# Altium integrated library CUBIC_FC.IntLib: 64 symbols (part 1 of 3)
Pins are listed as number, name and electrical type; pins without a type are passive.

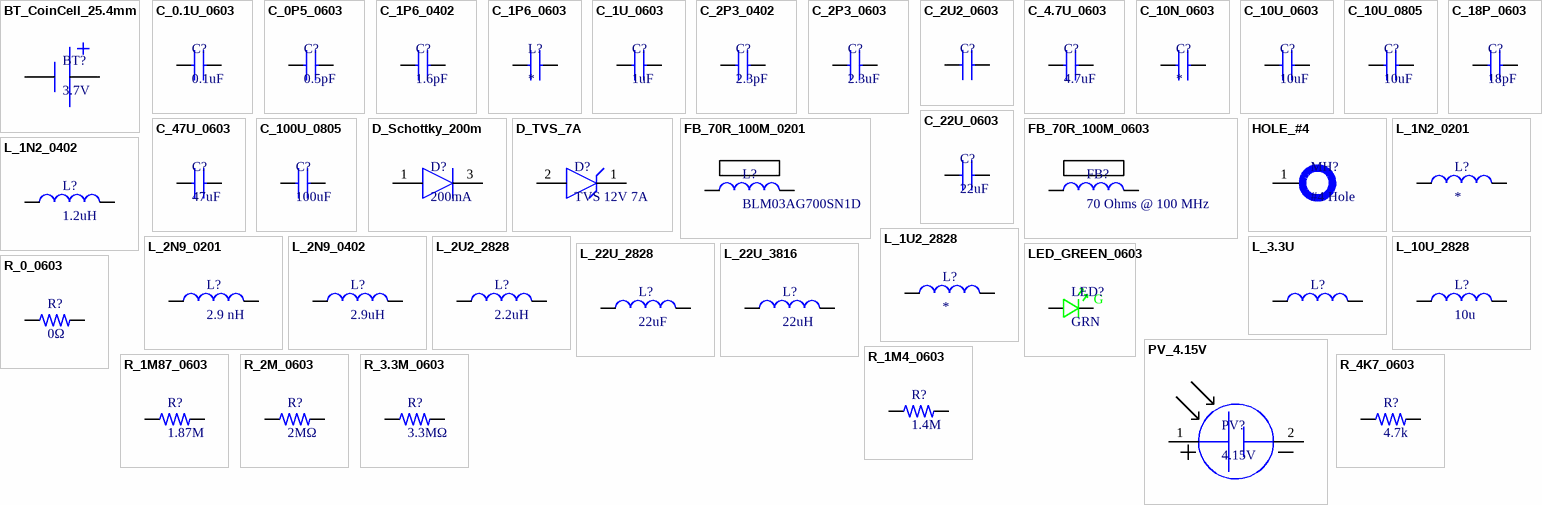
[diagram p0: symbols BT_CoinCell_25.4mm to R_4K7_0603]

## BT_CoinCell_25.4mm
designator BT?, comment 3.7V
BATTERY HOLDER COIN 24.5MM SMD; Manufacturer: Memory Protection Devices; Manufacturer Part Number: BU2450SM-JJ-GTR; Supplier: Digikey; Supplier Part Number: BU2450SM-JJ-GCT-ND; RoHS: Yes; Category: Uncategorized; Stock: 49410; Pricing: 1=1.72, 10=1.445, 50=1.2702, 100=1.1967 (USD); ComponentLink1URL: https://datasheet.ciiva.com/4/bu2450sm-jj-gtr-datasheet-4338.pdf?src-supplier=Digikey; ComponentLink1Description: https://datasheet.ciiva.com/4/bu2450sm-jj-gtr-datasheet-4338.pdf?src-supplier=Digikey; ComponentLink2URL: https://datasheet.ciiva.com/4/bu2450sm-jj-gtr-datasheet-4339.pdf?src-supplier=Digikey; ComponentLink2Description: https://datasheet.ciiva.com/4/bu2450sm-jj-gtr-datasheet-4339.pdf?src-supplier=Digikey; ComponentLink3URL: https://datasheet.ciiva.com/4/bu2450sm-jj-gtr-datasheet-4340.pdf?src-supplier=Digikey; ComponentLink3Description: https://datasheet.ciiva.com/4/bu2450sm-jj-gtr-datasheet-4340.pdf?src-supplier=Digikey
footprint BT_25.4mmCoinCell
pins: 1 7, 2 6

## C_0.1U_0603
designator C?, comment 0.1uF
CAP CER 0.1UF 10V X5R 0603; Manufacturer: KEMET; Manufacturer Part Number: C0603C104K8PAC7867; Dielectric Material: Ceramic; Supplier: Digikey; Supplier Part Number: 399-17573-1-ND; RoHS: Yes; Category: Ceramic Capacitors; Stock: 13122; Pricing: 1=0.18, 10=0.119, 50=0.075, 100=0.06, 500=0.04332, 1000=0.03833 (USD); Pins: 2; Capacitor Type: Ceramic; Reach SVHC Compliant: Yes; RoHS Compliant: Yes; ComponentLink1URL: https://datasheet.ciiva.com:443/pdfs/VipMasterIC/IC/KEME/KEME-S-A0007617622/KEME-S-A0007611556-1.pdf?src-supplier=IHS+Markit; ComponentLink1Description: https://datasheet.ciiva.com:443/pdfs/VipMasterIC/IC/KEME/KEME-S-A0007617622/KEME-S-A0007611556-1.pdf?src-supplier=IHS+Markit; ComponentLink2URL: https://api.kemet.com/component-edge/download/datasheet/C0603C104K8PAC7867.pdf?src-supplier=Digikey; ComponentLink2Description: https://api.kemet.com/component-edge/download/datasheet/C0603C104K8PAC7867.pdf?src-supplier=Digikey
footprint C_0603 (Chip Capacitor, 2-Leads, Body 1.60x0.80mm, IPC Medium Density)
pins: 1, 2

## C_0P5_0603
designator C?, comment 0.5pF
Cap Cer 0.5PF 250V C0G/NP0 0603; Manufacturer: Johanson; Manufacturer Part Number: QSCP251Q0R5A1GV001T; Supplier: Digikey; Supplier Part Number: 712-QSCP251Q0R5A1GV001TCT-ND; RoHS: No; Category: Ceramic Capacitors; Stock: 12633; Pricing: 1=0.36, 10=0.237, 50=0.1746, 100=0.1422, 500=0.11226, 1000=0.0948 (USD)
footprint C_0603 (Chip Capacitor, 2-Leads, Body 1.60x0.80mm, IPC Medium Density)
pins: 1, 2

## C_1P6_0402
designator C?, comment 1.6pF
Ceramic Capacitor, Multilayer, Ceramic, 50V, 15.62% +Tol, 15.62% -Tol, C0G, 30ppm/Cel TC, 0.0000016uF, Surface Mount, 0402; Manufacturer: Murata; Manufacturer Part Number: GJM1555C1H1R6CB01D; Multilayer: Yes; Supplier: Digikey; Supplier Part Number: 490-3088-1-ND; RoHS: Yes; Category: Ceramic Capacitors; Stock: 26859; Pricing: 1=0.1, 10=0.047, 50=0.0272, 100=0.0211, 500=0.01586, 1000=0.01246, 2500=0.01133, 5000=0.01042 (USD); Mounting Technology: Surface Mount; Pins: 2; Dielectric Material: Ceramic; Package Shape: Rectangular; Case/Package: 0402; Terminal Finish: Nickel; Min Operating Temperature: -55°C; Max Operating Temperature: 125°C; JESD-609 Code: e3; Value: 1.6pF; Capacitor Type: Ceramic; Tolerance  (fill in as +-): 15.62%; Package Style: SMTMeter; Packaging: Tape and Reel; Tolerance (fill in as +-): 15.62%; Rated DC Voltage (URdc): 50V; Temperature Characteristics Code: C0G; Termination: Wraparound; Length: 1mm; Width: 0.5mm; Height: 0.5mm; Reach SVHC Compliant: Yes; RoHS Compliant: Yes; ComponentLink1URL: https://datasheet.ciiva.com:443/pdfs/VipMasterIC/IC/MURE/MURE-S-A0004378008/MURE-S-A0004382877-1.pdf?src-supplier=IHS+Markit; ComponentLink1Description: https://datasheet.ciiva.com:443/pdfs/VipMasterIC/IC/MURE/MURE-S-A0004378008/MURE-S-A0004382877-1.pdf?src-supplier=IHS+Markit; ComponentLink2URL: https://datasheet.ciiva.com/161/product-161712.pdf?src-supplier=Digikey; ComponentLink2Description: https://datasheet.ciiva.com/161/product-161712.pdf?src-supplier=Digikey; ComponentLink3URL: https://datasheet.ciiva.com/16440/gjm1555c1h1r6cb01d-16440474.pdf?src-supplier=Future+Electronics; ComponentLink3Description: https://datasheet.ciiva.com/16440/gjm1555c1h1r6cb01d-16440474.pdf?src-supplier=Future+Electronics; ComponentLink4URL: https://datasheet.ciiva.com/161/partnumbering-e-01-161713.pdf?src-supplier=Digikey; ComponentLink4Description: https://datasheet.ciiva.com/161/partnumbering-e-01-161713.pdf?src-supplier=Digikey; ComponentLink5URL: https://datasheet.ciiva.com/161/partnumbering-e-01-161714.pdf?src-supplier=Digikey; ComponentLink5Description: https://datasheet.ciiva.com/161/partnumbering-e-01-161714.pdf?src-supplier=Digikey
footprint C_0402
pins: 1, 2

## C_1P6_0603
designator L?
Cap Ceramic 1.6pF 50V C0G 0.1pF Pad SMD 0603 125C Automotive T/R; Manufacturer: KEMET; Manufacturer Part Number: CBR06C169B5GACAUTO; Supplier: Digikey; Supplier Part Number: 399-CBR06C169B5GACAUTOCT-ND; RoHS: No; Category: Ceramic Capacitors; Stock: 6392; Pricing: 1=0.24, 10=0.157, 50=0.1102, 100=0.0891, 500=0.06618, 1000=0.0579 (USD)
footprint C_0603 (Chip Capacitor, 2-Leads, Body 1.60x0.80mm, IPC Medium Density)
pins: 1, 2

## C_1U_0603
designator C?, comment 1uF
CAP CER 1UF 10V X5R 0603; Manufacturer: Murata; Manufacturer Part Number: GRM188R61A105KA61D; Dielectric Material: Ceramic; Multilayer: Yes; Tolerance  (fill in as +-): 10%; Supplier: Digikey; Supplier Part Number: 490-1543-1-ND; RoHS: Yes; Category: Ceramic Capacitors; Stock: 1314759; Pricing: 1=0.12, 10=0.08, 50=0.048, 100=0.0378, 500=0.02794, 1000=0.02313 (USD); Mounting Technology: Surface Mount; Pins: 2; Package Shape: Rectangular; Case/Package: 0603; Terminal Finish: Nickel; Min Operating Temperature: -55°C; Max Operating Temperature: 85°C; JESD-609 Code: e3; Value: 1uF; Capacitor Type: Ceramic; Package Style: SMTMeter; Packaging: Tape and Reel; Tolerance (fill in as +-): 10%; Rated DC Voltage (URdc): 10V; Temperature Characteristics Code: X5R; Termination: Wraparound; Length: 1.6mm; Width: 0.8mm; Height: 0.8mm; Reach SVHC Compliant: Yes; RoHS Compliant: Yes; ComponentLink1URL: https://psearch.en.murata.com:443/capacitor/product/GRM188R61A105KA61%23.pdf?src-supplier=IHS+Markit; ComponentLink1Description: https://psearch.en.murata.com:443/capacitor/product/GRM188R61A105KA61%23.pdf?src-supplier=IHS+Markit; ComponentLink2URL: https://datasheet.ciiva.com/19476/1857381-19476568.pdf?src-supplier=Jameco; ComponentLink2Description: https://datasheet.ciiva.com/19476/1857381-19476568.pdf?src-supplier=Jameco; ComponentLink3URL: https://datasheet.ciiva.com/18102/getdatasheetpartid-85467-18102910.pdf?src-supplier=Verical; ComponentLink3Description: https://datasheet.ciiva.com/18102/getdatasheetpartid-85467-18102910.pdf?src-supplier=Verical; ComponentLink4URL: https://datasheet.ciiva.com/7719/608985-7719036.pdf?src-supplier=Element14; ComponentLink4Description: https://datasheet.ciiva.com/7719/608985-7719036.pdf?src-supplier=Element14; ComponentLink5URL: https://datasheet.ciiva.com/22706/608985-22706782.pdf?src-supplier=Element14; ComponentLink5Description: https://datasheet.ciiva.com/22706/608985-22706782.pdf?src-supplier=Element14; ComponentLink6URL: https://datasheet.ciiva.com/131/partnumbering-e-01-131742.pdf?src-supplier=Digikey; ComponentLink6Description: https://datasheet.ciiva.com/131/partnumbering-e-01-131742.pdf?src-supplier=Digikey; ComponentLink7URL: https://datasheet.ciiva.com/131/partnumbering-e-01-131741.pdf?src-supplier=Digikey; ComponentLink7Description: https://datasheet.ciiva.com/131/partnumbering-e-01-131741.pdf?src-supplier=Digikey; ComponentLink8URL: https://datasheet.ciiva.com/131/partnumbering-e-01-131743.pdf?src-supplier=Digikey; ComponentLink8Description: https://datasheet.ciiva.com/131/partnumbering-e-01-131743.pdf?src-supplier=Digikey; ComponentLink9URL: https://datasheet.ciiva.com/16199/product-16199724.pdf?src-supplier=Future+Electronics; ComponentLink9Description: https://datasheet.ciiva.com/16199/product-16199724.pdf?src-supplier=Future+Electronics
footprint C_0603 (Chip Capacitor, 2-Leads, Body 1.60x0.80mm, IPC Medium Density)
pins: 1, 2

## C_2P3_0402
designator C?, comment 2.3pF
Ceramic Capacitor, Multilayer, Ceramic, 50V, 4.35% +Tol, 4.35% -Tol, C0G, 30ppm/Cel TC, 0.0000023uF, Surface Mount, 0402; Manufacturer: Murata; Manufacturer Part Number: GJM1555C1H2R3BB01D; Multilayer: Yes; Supplier: Digikey; Supplier Part Number: 490-GJM1555C1H2R3BB01DCT-ND; RoHS: Yes; Category: Ceramic Capacitors; Stock: 30945; Pricing: 1=0.1, 10=0.068, 50=0.0406, 100=0.0319, 500=0.02356, 1000=0.01951, 2500=0.01815, 5000=0.01661 (USD); Mounting Technology: Surface Mount; Pins: 2; Dielectric Material: Ceramic; Package Shape: Rectangular; Case/Package: 0402; Terminal Finish: Nickel; Min Operating Temperature: -55°C; Max Operating Temperature: 125°C; JESD-609 Code: e3; Value: 2.3pF; Capacitor Type: Ceramic; Tolerance  (fill in as +-): 4.35%; Package Style: SMTMeter; Packaging: Tape and Reel; Tolerance (fill in as +-): 4.35%; Rated DC Voltage (URdc): 50V; Temperature Characteristics Code: C0G; Termination: Wraparound; Length: 1mm; Width: 0.5mm; Height: 0.5mm; Reach SVHC Compliant: Yes; RoHS Compliant: Yes; ComponentLink1URL: https://datasheet.ciiva.com:443/pdfs/VipMasterIC/IC/MURE/MURE-S-A0004378008/MURE-S-A0004382787-1.pdf?src-supplier=IHS+Markit; ComponentLink1Description: https://datasheet.ciiva.com:443/pdfs/VipMasterIC/IC/MURE/MURE-S-A0004378008/MURE-S-A0004382787-1.pdf?src-supplier=IHS+Markit; ComponentLink2URL: https://datasheet.ciiva.com/166/product-166998.pdf?src-supplier=Digikey; ComponentLink2Description: https://datasheet.ciiva.com/166/product-166998.pdf?src-supplier=Digikey
footprint C_0402
pins: 1, 2

## C_2P3_0603
designator C?, comment 2.3uF
Ceramic Capacitor, Multilayer, Ceramic, 50V, 4.3478% +Tol, 4.3478% -Tol, C0G, -/+30ppm/Cel TC, 0.0000023uF, Surface Mount, 0603; Manufacturer: KEMET; Manufacturer Part Number: CBR06C239B5GAC; Value: 2.3pF; Multilayer: Yes; Supplier: Digikey; Supplier Part Number: 399-16155-1-ND; RoHS: Yes; Category: Ceramic Capacitors; Stock: 9918; Pricing: 1=0.26, 10=0.171, 50=0.1082, 100=0.0865, 500=0.0625, 1000=0.05529 (USD); Pins: 2; Dielectric Material: Ceramic; Case/Package: 0603; Terminal Finish: Tin; Min Operating Temperature: -55°C; Max Operating Temperature: 125°C; JESD-609 Code: e3; Capacitor Type: Ceramic; Tolerance  (fill in as +-): 4.3478%; Package Style: SMTMeter; Packaging: Tape and Reel; Tolerance (fill in as +-): 4.3478%; Rated DC Voltage (URdc): 50V; Temperature Characteristics Code: C0G; Length: 1.6mm; Width: 0.8mm; Height: 0.8mm; Reach SVHC Compliant: Yes; RoHS Compliant: Yes; ComponentLink1URL: https://datasheet.ciiva.com:443/pdfs/VipMasterIC/IC/KEME/KEME-S-A0008534334/KEME-S-A0008534334-1.pdf?src-supplier=IHS+Markit; ComponentLink1Description: https://datasheet.ciiva.com:443/pdfs/VipMasterIC/IC/KEME/KEME-S-A0008534334/KEME-S-A0008534334-1.pdf?src-supplier=IHS+Markit; ComponentLink2URL: https://api.kemet.com/component-edge/download/datasheet/CBR06C239B5GAC.pdf?src-supplier=Digikey; ComponentLink2Description: https://api.kemet.com/component-edge/download/datasheet/CBR06C239B5GAC.pdf?src-supplier=Digikey
footprint C_0603 (Chip Capacitor, 2-Leads, Body 1.60x0.80mm, IPC Medium Density)
pins: 1, 2

## C_2U2_0603
designator C?  (value not drawn)
Ceramic Capacitor, Multilayer, Ceramic, 10V, 10% +Tol, 10% -Tol, X7R, 15% TC, 2.2uF, Surface Mount, 0603; Manufacturer: Samsung; Manufacturer Part Number: CL10B225KP8NNNC; Multilayer: Yes; Supplier: Digikey; Supplier Part Number: 1276-1134-1-ND; RoHS: Yes; Category: Ceramic Capacitors; Stock: 1035354; Pricing: 1=0.1, 10=0.07, 50=0.0418, 100=0.0329, 500=0.02428, 1000=0.0201 (USD); Mounting Technology: Surface Mount; Pins: 2; Dielectric Material: Ceramic; Package Shape: Rectangular; Case/Package: 0603; Terminal Finish: Nickel; Min Operating Temperature: -55°C; Max Operating Temperature: 125°C; JESD-609 Code: e3; Value: 2.2uF; Capacitor Type: Ceramic; Tolerance  (fill in as +-): 10%; Package Style: SMTMeter; Packaging: Tape and Reel; Tolerance (fill in as +-): 10%; Rated DC Voltage (URdc): 10V; Temperature Characteristics Code: X7R; Termination: Wraparound; Length: 1.6mm; Width: 0.8mm; Height: 0.9mm; Reach SVHC Compliant: Yes; RoHS Compliant: Yes; ComponentLink1URL: https://datasheet.ciiva.com:443/pdfs/VipMasterIC/IC/SEMS/SEMS-S-A0008384515/SEMS-S-A0008873307-1.pdf?src-supplier=IHS+Markit; ComponentLink1Description: https://datasheet.ciiva.com:443/pdfs/VipMasterIC/IC/SEMS/SEMS-S-A0008384515/SEMS-S-A0008873307-1.pdf?src-supplier=IHS+Markit; ComponentLink2URL: https://datasheet.ciiva.com/15227/getdatasheetpartid-359568-15227195.pdf?src-supplier=Verical; ComponentLink2Description: https://datasheet.ciiva.com/15227/getdatasheetpartid-359568-15227195.pdf?src-supplier=Verical; ComponentLink3URL: https://datasheet.ciiva.com/25798/cl10b225kp8nnnc-25798914.pdf?src-supplier=Digikey; ComponentLink3Description: https://datasheet.ciiva.com/25798/cl10b225kp8nnnc-25798914.pdf?src-supplier=Digikey; ComponentLink4URL: https://datasheet.ciiva.com/16500/cl10b225kp8nnnc-16500695.pdf?src-supplier=Future+Electronics; ComponentLink4Description: https://datasheet.ciiva.com/16500/cl10b225kp8nnnc-16500695.pdf?src-supplier=Future+Electronics; ComponentLink5URL: https://datasheet.ciiva.com/29198/457933-da-01-en-vs-kondensator-0603-29198589.pdf?src-supplier=Conrad; ComponentLink5Description: https://datasheet.ciiva.com/29198/457933-da-01-en-vs-kondensator-0603-29198589.pdf?src-supplier=Conrad
footprint C_0603 (Chip Capacitor, 2-Leads, Body 1.60x0.80mm, IPC Medium Density)
pins: 1, 2

## C_4.7U_0603
designator C?, comment 4.7uF
CAP CER 4.7UF 10V X5R 0603; Manufacturer: Murata; Manufacturer Part Number: GRM188R61A475KAAJD; Dielectric Material: Ceramic; Multilayer: Yes; Tolerance  (fill in as +-): 10%; Supplier: Digikey; Supplier Part Number: 490-14373-1-ND; RoHS: Yes; Category: Ceramic Capacitors; Stock: 53982; Pricing: 1=0.38, 10=0.251, 50=0.185, 100=0.1506, 500=0.11888, 1000=0.10039 (USD); Mounting Technology: Surface Mount; Pins: 2; Package Shape: Rectangular; Case/Package: 0603; Terminal Finish: Nickel; Min Operating Temperature: -55°C; Max Operating Temperature: 85°C; JESD-609 Code: e3; Value: 4.7uF; Capacitor Type: Ceramic; Packaging: Tape and Reel; Tolerance (fill in as +-): 10%; Rated DC Voltage (URdc): 10V; Temperature Characteristics Code: X5R; Termination: Wraparound; Reach SVHC Compliant: Yes; RoHS Compliant: Yes; ComponentLink1URL: https://datasheet.ciiva.com:443/pdfs/VipMasterIC/IC/MURE/MURE-S-A0004349797/MURE-S-A0004352595-1.pdf?src-supplier=IHS+Markit; ComponentLink1Description: https://datasheet.ciiva.com:443/pdfs/VipMasterIC/IC/MURE/MURE-S-A0004349797/MURE-S-A0004352595-1.pdf?src-supplier=IHS+Markit; ComponentLink2URL: http://search.murata.co.jp/Ceramy/image/img/A01X/G101/ENG/GRM188R61A475KAAJ-01.pdf?src-supplier=Digikey; ComponentLink2Description: http://search.murata.co.jp/Ceramy/image/img/A01X/G101/ENG/GRM188R61A475KAAJ-01.pdf?src-supplier=Digikey
footprint C_0603 (Chip Capacitor, 2-Leads, Body 1.60x0.80mm, IPC Medium Density)
pins: 1, 2

## C_10N_0603
designator C?
Ceramic Capacitor, Multilayer, Ceramic, 100V, 10% +Tol, 10% -Tol, X7R, 15% TC, 0.01uF, Surface Mount, 0603; Manufacturer: Murata; Manufacturer Part Number: GCM188R72A103KA37D; Value: 10nF; Multilayer: Yes; Reference Standard: AEC-Q200; Supplier: Digikey; Supplier Part Number: 490-4781-6-ND; RoHS: Yes; Category: Ceramic Capacitors; Stock: 7901608; Pricing: 1=0.1, 10=0.038, 50=0.0218, 100=0.0168, 500=0.01268, 1000=0.00996 (USD); Mounting Technology: Surface Mount; Pins: 2; Dielectric Material: Ceramic; Package Shape: Rectangular; Case/Package: 0603; Terminal Finish: Nickel; Min Operating Temperature: -55°C; Max Operating Temperature: 125°C; JESD-609 Code: e3; Capacitor Type: Ceramic; Tolerance  (fill in as +-): 10%; Package Style: SMTMeter; Packaging: Tape and Reel; Tolerance (fill in as +-): 10%; Rated DC Voltage (URdc): 100V; Temperature Characteristics Code: X7R; Termination: Wraparound; Length: 1.6mm; Width: 0.8mm; Height: 0.9mm; Reach SVHC Compliant: Yes; RoHS Compliant: Yes; ComponentLink1URL: https://psearch.en.murata.com:443/capacitor/product/GCM188R72A103KA37%23.pdf?src-supplier=IHS+Markit; ComponentLink1Description: https://psearch.en.murata.com:443/capacitor/product/GCM188R72A103KA37%23.pdf?src-supplier=IHS+Markit; ComponentLink2URL: https://datasheet.ciiva.com/132/product-132908.pdf?src-supplier=Digikey; ComponentLink2Description: https://datasheet.ciiva.com/132/product-132908.pdf?src-supplier=Digikey; ComponentLink3URL: https://datasheet.ciiva.com/132/product-132907.pdf?src-supplier=Digikey; ComponentLink3Description: https://datasheet.ciiva.com/132/product-132907.pdf?src-supplier=Digikey; ComponentLink4URL: https://datasheet.ciiva.com/132/product-132909.pdf?src-supplier=Digikey; ComponentLink4Description: https://datasheet.ciiva.com/132/product-132909.pdf?src-supplier=Digikey; ComponentLink5URL: https://datasheet.ciiva.com/11786/0900766b80ef92d0-11786108.pdf?src-supplier=Rs; ComponentLink5Description: https://datasheet.ciiva.com/11786/0900766b80ef92d0-11786108.pdf?src-supplier=Rs; ComponentLink6URL: https://datasheet.ciiva.com/16497/product-16497251.pdf?src-supplier=Future+Electronics; ComponentLink6Description: https://datasheet.ciiva.com/16497/product-16497251.pdf?src-supplier=Future+Electronics; ComponentLink7URL: https://datasheet.ciiva.com/18183/getdatasheetpartid-178890-18183651.pdf?src-supplier=Verical; ComponentLink7Description: https://datasheet.ciiva.com/18183/getdatasheetpartid-178890-18183651.pdf?src-supplier=Verical; ComponentLink8URL: https://datasheet.ciiva.com/11619/product-11619719.pdf?src-supplier=Avnet; ComponentLink8Description: https://datasheet.ciiva.com/11619/product-11619719.pdf?src-supplier=Avnet
footprint C_0603 (Chip Capacitor, 2-Leads, Body 1.60x0.80mm, IPC Medium Density)
pins: 1, 2

## C_10U_0603
designator C?, comment 10uF
CAP CER 10UF 10V X5R 0603; Manufacturer: Murata; Manufacturer Part Number: GRM188R61A106ME69D; Dielectric Material: Ceramic; Multilayer: Yes; Tolerance  (fill in as +-): 20%; Supplier: Digikey; Supplier Part Number: 490-10475-1-ND; RoHS: Yes; Category: Ceramic Capacitors; Stock: 841748; Pricing: 1=0.14, 10=0.098, 50=0.0584, 100=0.0459, 500=0.03392, 1000=0.02809 (USD); Mounting Technology: Surface Mount; Pins: 2; Package Shape: Rectangular; Case/Package: 0603; Terminal Finish: Nickel; Min Operating Temperature: -55°C; Max Operating Temperature: 85°C; JESD-609 Code: e3; Value: 10uF; Capacitor Type: Ceramic; Packaging: Tape and Reel; Tolerance (fill in as +-): 20%; Rated DC Voltage (URdc): 10V; Temperature Characteristics Code: X5R; Termination: Wraparound; Reach SVHC Compliant: Yes; RoHS Compliant: Yes; ComponentLink1URL: https://datasheet.ciiva.com:443/pdfs/VipMasterIC/IC/MURE/MURE-S-A0004349797/MURE-S-A0004352786-1.pdf?src-supplier=IHS+Markit; ComponentLink1Description: https://datasheet.ciiva.com:443/pdfs/VipMasterIC/IC/MURE/MURE-S-A0004349797/MURE-S-A0004352786-1.pdf?src-supplier=IHS+Markit; ComponentLink2URL: http://www.farnell.com/datasheets/1872210.pdf?src-supplier=Farnell; ComponentLink2Description: http://www.farnell.com/datasheets/1872210.pdf?src-supplier=Farnell; ComponentLink3URL: http://www.mouser.com/ds/2/281/c02e-2905.pdf?src-supplier=Mouser; ComponentLink3Description: http://www.mouser.com/ds/2/281/c02e-2905.pdf?src-supplier=Mouser; ComponentLink4URL: https://datasheet.octopart.com/GRM188R61A106ME69D-Murata-datasheet-22122223.pdf?src-supplier=Future+Electronics; ComponentLink4Description: https://datasheet.octopart.com/GRM188R61A106ME69D-Murata-datasheet-22122223.pdf?src-supplier=Future+Electronics; ComponentLink5URL: https://datasheet.octopart.com/GRM188R61A106ME69D-Murata-datasheet-62317187.pdf?src-supplier=Element14; ComponentLink5Description: https://datasheet.octopart.com/GRM188R61A106ME69D-Murata-datasheet-62317187.pdf?src-supplier=Element14; ComponentLink6URL: http://www.farnell.com/datasheets/1872210.pdf?src-supplier=Newark; ComponentLink6Description: http://www.farnell.com/datasheets/1872210.pdf?src-supplier=Newark; ComponentLink7URL: http://www.farnell.com/datasheets/2048014.pdf?src-supplier=Element14; ComponentLink7Description: http://www.farnell.com/datasheets/2048014.pdf?src-supplier=Element14; ComponentLink8URL: https://datasheet.octopart.com/GRM188R61A106ME69D-Murata-datasheet-165579666.pdf?src-supplier=TME; ComponentLink8Description: https://datasheet.octopart.com/GRM188R61A106ME69D-Murata-datasheet-165579666.pdf?src-supplier=TME
footprint C_0603 (Chip Capacitor, 2-Leads, Body 1.60x0.80mm, IPC Medium Density)
pins: 1, 2

## C_10U_0805
designator C?, comment 10uF
CAP CER 10UF 25V X5R 0805; Manufacturer: Murata; Manufacturer Part Number: GRM21BR61E106KA73K; Dielectric Material: Ceramic; Multilayer: Yes; Tolerance  (fill in as +-): 10%; Supplier: Digikey; Supplier Part Number: 490-16824-1-ND; RoHS: Yes; Category: Ceramic Capacitors; Stock: 496464; Pricing: 1=0.19, 10=0.125, 50=0.0792, 100=0.0634, 500=0.0458, 1000=0.04051, 2500=0.03875, 5000=0.03523 (USD); Mounting Technology: Surface Mount; Pins: 2; Package Shape: Rectangular; Case/Package: 0805; Terminal Finish: Nickel; Min Operating Temperature: -55°C; Max Operating Temperature: 85°C; JESD-609 Code: e3; Value: 10uF; Capacitor Type: Ceramic; Package Style: SMTMeter; Packaging: Tape and Reel; Tolerance (fill in as +-): 10%; Rated DC Voltage (URdc): 25V; Temperature Characteristics Code: X5R; Termination: Wraparound; Length: 2mm; Width: 1.25mm; Height: 1.25mm; Reach SVHC Compliant: Yes; RoHS Compliant: Yes; ComponentLink1URL: https://datasheet.ciiva.com:443/pdfs/VipMasterIC/IC/MURE/MURE-S-A0004349797/MURE-S-A0004361627-1.pdf?src-supplier=IHS+Markit; ComponentLink1Description: https://datasheet.ciiva.com:443/pdfs/VipMasterIC/IC/MURE/MURE-S-A0004349797/MURE-S-A0004361627-1.pdf?src-supplier=IHS+Markit; ComponentLink2URL: http://www.mouser.com/ds/2/281/c02e-2905.pdf?src-supplier=Mouser; ComponentLink2Description: http://www.mouser.com/ds/2/281/c02e-2905.pdf?src-supplier=Mouser; ComponentLink3URL: https://datasheet.octopart.com/GRM21BR61E106KA73K-Murata-datasheet-99353849.pdf?src-supplier=Future+Electronics; ComponentLink3Description: https://datasheet.octopart.com/GRM21BR61E106KA73K-Murata-datasheet-99353849.pdf?src-supplier=Future+Electronics; ComponentLink4URL: https://datasheet.octopart.com/GRM21BR61E106KA73K-Murata-datasheet-149523495.pdf?src-supplier=Newark; ComponentLink4Description: https://datasheet.octopart.com/GRM21BR61E106KA73K-Murata-datasheet-149523495.pdf?src-supplier=Newark; ComponentLink5URL: http://search.murata.co.jp/Ceramy/image/img/A01X/G101/ENG/GRM21BR61E106KA73-01.pdf?src-supplier=Digikey; ComponentLink5Description: http://search.murata.co.jp/Ceramy/image/img/A01X/G101/ENG/GRM21BR61E106KA73-01.pdf?src-supplier=Digikey; ComponentLink6URL: https://search.murata.co.jp/Ceramy/image/img/A01X/G101/ENG/GRM21BR61E106KA73-01.pdf?src-supplier=Digikey; ComponentLink6Description: https://search.murata.co.jp/Ceramy/image/img/A01X/G101/ENG/GRM21BR61E106KA73-01.pdf?src-supplier=Digikey; ComponentLink7URL: https://datasheet.octopart.com/GRM21BR61E106KA73K-Murata-datasheet-165579666.pdf?src-supplier=TME; ComponentLink7Description: https://datasheet.octopart.com/GRM21BR61E106KA73K-Murata-datasheet-165579666.pdf?src-supplier=TME
footprint C_0805 (Chip Capacitor, 2-Leads, Body 2.00x1.25mm, IPC Medium Density)
pins: 1, 2

## C_18P_0603
designator C?, comment 18pF
Ceramic Capacitor, Multilayer, Ceramic, 50V, 5% +Tol, 5% -Tol, C0G, 30ppm/Cel TC, 0.000018uF, Surface Mount, 0603; Manufacturer: KEMET; Manufacturer Part Number: C0603C180J5GACTU; Multilayer: Yes; Supplier: Digikey; Supplier Part Number: 399-C0603C180J5GAC7867CT-ND; RoHS: Yes; Category: Ceramic Capacitors; Stock: 391868; Pricing: 1=0.1, 10=0.037, 50=0.0212, 100=0.0164, 500=0.01238, 1000=0.00972 (USD); Mounting Technology: Surface Mount; Pins: 2; Dielectric Material: Ceramic; Package Shape: Rectangular; Case/Package: 0603; Terminal Finish: Nickel; Min Operating Temperature: -55°C; Max Operating Temperature: 125°C; JESD-609 Code: e3; Value: 18pF; Capacitor Type: Ceramic; Tolerance  (fill in as +-): 5%; Package Style: SMTMeter; Packaging: Tape and Reel; Tolerance (fill in as +-): 5%; Rated DC Voltage (URdc): 50V; Temperature Characteristics Code: C0G; Termination: Wraparound; Length: 1.6mm; Width: 0.8mm; Height: 0.8mm; Reach SVHC Compliant: Yes; RoHS Compliant: Yes; ComponentLink1URL: https://datasheet.ciiva.com:443/pdfs/VipMasterIC/IC/KEME/KEME-S-A0007622587/KEME-S-A0007623064-1.pdf?src-supplier=IHS+Markit; ComponentLink1Description: https://datasheet.ciiva.com:443/pdfs/VipMasterIC/IC/KEME/KEME-S-A0007622587/KEME-S-A0007623064-1.pdf?src-supplier=IHS+Markit; ComponentLink2URL: https://datasheet.ciiva.com/7824/1372242-7824010.pdf?src-supplier=Element14; ComponentLink2Description: https://datasheet.ciiva.com/7824/1372242-7824010.pdf?src-supplier=Element14; ComponentLink3URL: https://datasheet.ciiva.com/7824/f9080b-0402-series-c0g-7824009.pdf?src-supplier=Element14; ComponentLink3Description: https://datasheet.ciiva.com/7824/f9080b-0402-series-c0g-7824009.pdf?src-supplier=Element14
footprint C_0603 (Chip Capacitor, 2-Leads, Body 1.60x0.80mm, IPC Medium Density)
pins: 1, 2

## C_22U_0603
designator C?, comment 22uF
CAP CER 22UF 10V X5R 0603; Manufacturer: Murata; Manufacturer Part Number: GRM188R61A226ME15D; Voltage Rating DC: 10 VDC; Tolerance: 20 %; Brand: Murata Electronics; Type: Voltage and Temperature Derating Recommended Product; Unit Weight: 0.000222 oz; Supplier 1: Digi-Key; Supplier Part Number 1: 490-10476-1-ND; Stock 1: 849458; Pricing 1: 1=0.33, 10=0.226, 50=0.1506, 100=0.1279, 500=0.0903, 1000=0.079 (USD); Product Category: Multilayer Ceramic Capacitors MLCC - SMD/SMT; RoHS: True; Capacitance: 22 uF; Dielectric: X5R; Case Code - in: 0603; Case Code - mm: 1608; Height: 0.8 mm; Maximum Operating Temperature: + 85 C; Minimum Operating Temperature: - 55 C; Product: General Type MLCCs; Series: GRM; Packaging: Reel; Length: 1.6 mm; Package / Case: 0603 (1608 metric); Factory Pack Quantity: 4000; Termination Style: SMD/SMT; Width: 0.8 mm; ComponentLink1URL: http://www.farnell.com/datasheets/2047978.pdf?src-supplier=Element14; ComponentLink1Description: http://www.farnell.com/datasheets/2047978.pdf?src-supplier=Element14
footprint C_0603 (Chip Capacitor, 2-Leads, Body 1.60x0.80mm, IPC Medium Density)
pins: 1, 2

## C_47U_0603
designator C?, comment 47uF
CAP CER 47UF 6.3V X5R 0603; Manufacturer: Murata; Manufacturer Part Number: GRM188R60J476ME15D; Dielectric Material: Ceramic; Multilayer: Yes; Tolerance  (fill in as +-): 20%; Supplier: Digikey; Supplier Part Number: 490-13247-1-ND; RoHS: Yes; Category: Ceramic Capacitors; Stock: 445411; Pricing: 1=0.45, 10=0.303, 50=0.241, 100=0.1991, 500=0.15552, 1000=0.1322 (USD); Mounting Technology: Surface Mount; Pins: 2; Package Shape: Rectangular; Case/Package: 0603; Terminal Finish: Nickel; Min Operating Temperature: -55°C; Max Operating Temperature: 85°C; JESD-609 Code: e3; Value: 47uF; Capacitor Type: Ceramic; Packaging: Tape and Reel; Tolerance (fill in as +-): 20%; Rated DC Voltage (URdc): 6.3V; Temperature Characteristics Code: X5R; Termination: Wraparound; Reach SVHC Compliant: Yes; RoHS Compliant: Yes; ComponentLink1URL: https://datasheet.ciiva.com:443/pdfs/VipMasterIC/IC/MURE/MURE-S-A0004349797/MURE-S-A0004352403-1.pdf?src-supplier=IHS+Markit; ComponentLink1Description: https://datasheet.ciiva.com:443/pdfs/VipMasterIC/IC/MURE/MURE-S-A0004349797/MURE-S-A0004352403-1.pdf?src-supplier=IHS+Markit; ComponentLink2URL: https://www.murata.com/~/media/webrenewal/support/library/catalog/products/capacitor/mlcc/c02e.ashx?la=en-us&src-supplier=Digikey; ComponentLink2Description: https://www.murata.com/~/media/webrenewal/support/library/catalog/products/capacitor/mlcc/c02e.ashx?la=en-us&src-supplier=Digikey; ComponentLink3URL: http://search.murata.co.jp/Ceramy/image/img/A01X/G101/ENG/GRM188R60J476ME15-01.pdf?src-supplier=Digikey; ComponentLink3Description: http://search.murata.co.jp/Ceramy/image/img/A01X/G101/ENG/GRM188R60J476ME15-01.pdf?src-supplier=Digikey
footprint C_0603 (Chip Capacitor, 2-Leads, Body 1.60x0.80mm, IPC Medium Density)
pins: 1, 2

## C_100U_0805
designator C?, comment 100uF
CAP CER 100UF 6.3V X5R 0805; Manufacturer: Murata; Manufacturer Part Number: GRM21BR60J107ME15L; Dielectric Material: Ceramic; Multilayer: Yes; Tolerance  (fill in as +-): 20%; Supplier: Digikey; Supplier Part Number: 490-13981-1-ND; RoHS: Yes; Category: Ceramic Capacitors; Stock: 216821; Pricing: 1=1.15, 10=0.863, 50=0.7874, 100=0.645, 500=0.5148, 1000=0.45423 (USD); Mounting Technology: Surface Mount; Pins: 2; Package Shape: Rectangular; Case/Package: 0805; Terminal Finish: Nickel; Min Operating Temperature: -55°C; Max Operating Temperature: 85°C; JESD-609 Code: e3; Value: 100uF; Capacitor Type: Ceramic; Packaging: Tape and Reel; Tolerance (fill in as +-): 20%; Rated DC Voltage (URdc): 6.3V; Temperature Characteristics Code: X5R; Termination: Wraparound; Reach SVHC Compliant: Yes; RoHS Compliant: Yes; ComponentLink1URL: https://datasheet.ciiva.com:443/pdfs/VipMasterIC/IC/MURE/MURE-S-A0004349797/MURE-S-A0004361963-1.pdf?src-supplier=IHS+Markit; ComponentLink1Description: https://datasheet.ciiva.com:443/pdfs/VipMasterIC/IC/MURE/MURE-S-A0004349797/MURE-S-A0004361963-1.pdf?src-supplier=IHS+Markit; ComponentLink2URL: http://www.farnell.com/datasheets/1957830.pdf?src-supplier=Farnell; ComponentLink2Description: http://www.farnell.com/datasheets/1957830.pdf?src-supplier=Farnell; ComponentLink3URL: https://datasheet.octopart.com/GRM21BR60J107ME15L-Murata-datasheet-48012791.pdf?src-supplier=Element14; ComponentLink3Description: https://datasheet.octopart.com/GRM21BR60J107ME15L-Murata-datasheet-48012791.pdf?src-supplier=Element14; ComponentLink4URL: http://www.farnell.com/datasheets/1957830.pdf?src-supplier=Element14; ComponentLink4Description: http://www.farnell.com/datasheets/1957830.pdf?src-supplier=Element14; ComponentLink5URL: https://search.murata.co.jp/Ceramy/image/img/A01X/G101/ENG/GRM21BR60J107ME15-01.pdf?src-supplier=Digikey; ComponentLink5Description: https://search.murata.co.jp/Ceramy/image/img/A01X/G101/ENG/GRM21BR60J107ME15-01.pdf?src-supplier=Digikey; ComponentLink6URL: https://datasheet.octopart.com/GRM21BR60J107ME15L-Murata-datasheet-62287462.pdf?src-supplier=Future+Electronics; ComponentLink6Description: https://datasheet.octopart.com/GRM21BR60J107ME15L-Murata-datasheet-62287462.pdf?src-supplier=Future+Electronics; ComponentLink7URL: http://www.farnell.com/datasheets/1957830.pdf?src-supplier=Newark; ComponentLink7Description: http://www.farnell.com/datasheets/1957830.pdf?src-supplier=Newark; ComponentLink8URL: https://datasheet.octopart.com/GRM21BR60J107ME15L-Murata-datasheet-165579666.pdf?src-supplier=TME; ComponentLink8Description: https://datasheet.octopart.com/GRM21BR60J107ME15L-Murata-datasheet-165579666.pdf?src-supplier=TME
footprint C_0805 (Chip Capacitor, 2-Leads, Body 2.00x1.25mm, IPC Medium Density)
pins: 1, 2

## D_Schottky_200m
designator D?, comment 200mA
Rectifier Diode, Schottky, 1 Phase, 1 Element, 0.2A, 30V V(RRM), Silicon, TO-236; Manufacturer: ON Semiconductor; Manufacturer Part Number: BAT54LT1G; Package Body Material: Plastic; Forward Voltage: 1V; Number of Elements: 1; Max Power Dissipation: 200mW; Reverse Recovery Time-Max: 0.005us; Time @ Peak Reflow Temperature-Max (s): 40s; Qualification Status: Not Qualified; Supplier: Digikey; Supplier Part Number: BAT54LT1GOSCT-ND; RoHS: Yes; Category: Schottky Diodes; Stock: 189870; Pricing: 1=0.13, 10=0.095, 100=0.0511, 500=0.04014, 1000=0.02788 (USD); Pins: 3; Diode Element Material: SILICON; Package Shape: Rectangular; Terminal Finish: Tin; Min Operating Temperature: -55°C; Max Operating Temperature: 125°C; Diode Type: RECTIFIER; JESD-30 Code: R-PDSO-G3; Max Output current: 200mA; Package Style: SMALL OUTLINEMeter; Rep Pk Reverse Voltage-Max: 30V; Surface Mount: Yes; Technology: SCHOTTKY; Terminal Form: Gull Wing; Terminal Position: DUAL; JESD-609 Code: e3; Moisture Sensitivity Level: 1; Peak Reflow Temperature (Cel): 260°C; Reach SVHC Compliant: Yes; RoHS Compliant: Yes; JEDEC-95 Code: TO-236; ComponentLink1URL: https://datasheet.ciiva.com:443/pdfs/VipMasterIC/IC/ONSM/ONSM-S-A0005932371/ONSM-S-A0005932371-1.pdf?src-supplier=IHS+Markit; ComponentLink1Description: https://datasheet.ciiva.com:443/pdfs/VipMasterIC/IC/ONSM/ONSM-S-A0005932371/ONSM-S-A0005932371-1.pdf?src-supplier=IHS+Markit; ComponentLink2URL: https://datasheet.ciiva.com/7962/bat54lt1-d-7962967.pdf?src-supplier=Element14; ComponentLink2Description: https://datasheet.ciiva.com/7962/bat54lt1-d-7962967.pdf?src-supplier=Element14; ComponentLink3URL: https://datasheet.ciiva.com/8299/bat54lt1-d-8299649.pdf?src-supplier=Avnet; ComponentLink3Description: https://datasheet.ciiva.com/8299/bat54lt1-d-8299649.pdf?src-supplier=Avnet; ComponentLink4URL: https://datasheet.ciiva.com/1180/bat54lt1-d-1180300.pdf?src-supplier=Element14; ComponentLink4Description: https://datasheet.ciiva.com/1180/bat54lt1-d-1180300.pdf?src-supplier=Element14; ComponentLink5URL: https://datasheet.ciiva.com/1180/bat54lt1-d-1180299.pdf?src-supplier=Element14; ComponentLink5Description: https://datasheet.ciiva.com/1180/bat54lt1-d-1180299.pdf?src-supplier=Element14; ComponentLink6URL: https://datasheet.ciiva.com/28381/bat54lt1-d-28381274.pdf?src-supplier=Element14; ComponentLink6Description: https://datasheet.ciiva.com/28381/bat54lt1-d-28381274.pdf?src-supplier=Element14; ComponentLink7URL: https://datasheet.ciiva.com/14559/70099483-14559786.pdf?src-supplier=Allied+Electronics; ComponentLink7Description: https://datasheet.ciiva.com/14559/70099483-14559786.pdf?src-supplier=Allied+Electronics; ComponentLink8URL: https://datasheet.ciiva.com/8299/bat54lt1-d-8299979.pdf?src-supplier=Avnet; ComponentLink8Description: https://datasheet.ciiva.com/8299/bat54lt1-d-8299979.pdf?src-supplier=Avnet; ComponentLink9URL: https://datasheet.ciiva.com/16421/bat54lt1-d-16421631.pdf?src-supplier=Future+Electronics; ComponentLink9Description: https://datasheet.ciiva.com/16421/bat54lt1-d-16421631.pdf?src-supplier=Future+Electronics; ComponentLink10URL: https://datasheet.ciiva.com/915/bat54lt1-d-915396.pdf?src-supplier=Digikey; ComponentLink10Description: https://datasheet.ciiva.com/915/bat54lt1-d-915396.pdf?src-supplier=Digikey; ComponentLink11URL: https://datasheet.ciiva.com/915/bat54lt1-d-915397.pdf?src-supplier=Digikey; ComponentLink11Description: https://datasheet.ciiva.com/915/bat54lt1-d-915397.pdf?src-supplier=Digikey; ComponentLink12URL: https://datasheet.ciiva.com/915/bat54lt1-d-915395.pdf?src-supplier=Digikey; ComponentLink12Description: https://datasheet.ciiva.com/915/bat54lt1-d-915395.pdf?src-supplier=Digikey
footprint SOT95P237X111-3N (SOT23, 3-Leads, Body 2.92x2.37mm, Pitch 0.95mm, IPC Medium Density)
pins: 1 ANODE, 3 CATHODE

## D_TVS_7A
designator D?, comment TVS 12V 7A
TVS DIODE 5VWM 12VC SOD723; Manufacturer: Littelfuse; Manufacturer Part Number: SP1003-01DTG; Direction: Unidirectional; Reverse Breakdown Voltage: 6V; Operating Supply Voltage: 5V; Value: 30pF; Number of Channels: 1; Power Line Protection: No; Polarity: Bidirectional,Unidirectional; Test Current: 1mA; Leakage Current: 100nA; Diode Type: ZENER; Clamping Voltage-Max: 12.5V; Supplier: Digikey; Supplier Part Number: F3377CT-ND; RoHS: Yes; Category: TVS Diodes; Stock: 109631; Pricing: 1=0.53, 10=0.41, 100=0.2459, 500=0.22772, 1000=0.15485, 2000=0.14255 (USD); Mounting Technology: Surface Mount; Pins: 2; Min Operating Temperature: -40°C; Max Operating Temperature: 85°C; Packaging: Tape and Reel; Package Quantity: 8000; Max Surge Current: 7A; Number of Unidirectional Channels: 1; Reverse Standoff Voltage: 5V; Min Breakdown Voltage: 6V; Clamping Voltage: 12V; Breakdown Voltage: 5V; Termination: SMD/SMT; Number of Elements: 1; Peak Pulse Current: 7A; Series: SP1003, SPA®; Reach SVHC Compliant: No; Lead Free: Lead Free; RoHS Compliant: Yes; ComponentLink1URL: https://datasheet.ciiva.com/8062/littelfuse-spa-sp1003-series-8062432.pdf?src-supplier=Element14; ComponentLink1Description: https://datasheet.ciiva.com/8062/littelfuse-spa-sp1003-series-8062432.pdf?src-supplier=Element14; ComponentLink2URL: https://datasheet.ciiva.com/5771/littelfuse-spa-sp1003-series-5771141.pdf?src-supplier=Farnell; ComponentLink2Description: https://datasheet.ciiva.com/5771/littelfuse-spa-sp1003-series-5771141.pdf?src-supplier=Farnell; ComponentLink3URL: https://datasheet.ciiva.com/330/littelfuse-tvs-diode-array-sp1003-datasheet-pdf-330691.pdf?src-supplier=Digikey; ComponentLink3Description: https://datasheet.ciiva.com/330/littelfuse-tvs-diode-array-sp1003-datasheet-pdf-330691.pdf?src-supplier=Digikey; ComponentLink4URL: https://datasheet.ciiva.com/330/littelfuse-tvs-diode-array-sp1003-datasheet-pdf-330692.pdf?src-supplier=Digikey; ComponentLink4Description: https://datasheet.ciiva.com/330/littelfuse-tvs-diode-array-sp1003-datasheet-pdf-330692.pdf?src-supplier=Digikey; ComponentLink5URL: https://datasheet.ciiva.com/330/littelfuse-tvs-diode-array-sp1003-datasheet-pdf-330693.pdf?src-supplier=Digikey; ComponentLink5Description: https://datasheet.ciiva.com/330/littelfuse-tvs-diode-array-sp1003-datasheet-pdf-330693.pdf?src-supplier=Digikey
footprint D_TVS (SODFL, 2-Leads, Body 0.60x1.40mm, IPC Medium Density)
pins: 1, 2

## FB_70R_100M_0201
designator L?, comment BLM03AG700SN1D
Ferrite Chip, 1 Function(s), 0.2A, 2 Pin(s); Manufacturer: Murata; DC Resistance-Max: 400mR; Clock Frequency: 100MHz; Channels: 1; Output Impedance: 70R; Current Rating: 200mA; Supplier: Digikey; Supplier Part Number: 490-2556-1-ND; Manufacturer Part Number: BLM03AG700SN1D; RoHS: Yes; Category: Ferrite Beads and Chips; Stock: 26254; Pricing: 1=0.1, 10=0.032, 25=0.0284, 50=0.0258, 100=0.0232, 250=0.017, 500=0.01236, 1000=0.0121, 5000=0.00824 (USD); Mounting Technology: Surface Mount; Material: Ferrite; Case Code: 0201; Terminal Finish: Tin; Min Operating Temperature: -55°C; Max Operating Temperature: 125°C; JESD-609 Code: e3; Construction: Chip Bead; Filter Type: FERRITE CHIP; Min Frequency: 100MHz; Packaging: Tape and Reel; Length: 0.6mm; Width: 0.3mm; Height: 0.3mm; Reach SVHC Compliant: Yes; RoHS Compliant: Yes; ComponentLink1URL: https://datasheet.ciiva.com:443/pdfs/VipMasterIC/IC/MURE/MURE-S-A0010009808/MURE-S-A0010009808-1.pdf?src-supplier=IHS+Markit; ComponentLink1Description: https://datasheet.ciiva.com:443/pdfs/VipMasterIC/IC/MURE/MURE-S-A0010009808/MURE-S-A0010009808-1.pdf?src-supplier=IHS+Markit; ComponentLink2URL: https://datasheet.ciiva.com/41449/001172125-da-01-en-drossel-0201-70r-0-6x0-3mm-15000st-41449417.pdf?src-supplier=Conrad; ComponentLink2Description: https://datasheet.ciiva.com/41449/001172125-da-01-en-drossel-0201-70r-0-6x0-3mm-15000st-41449417.pdf?src-supplier=Conrad; ComponentLink3URL: https://datasheet.ciiva.com/1014/l0110s0100blm03ag-1014002.pdf?src-supplier=Digikey; ComponentLink3Description: https://datasheet.ciiva.com/1014/l0110s0100blm03ag-1014002.pdf?src-supplier=Digikey; ComponentLink4URL: https://datasheet.ciiva.com/1014/l0110s0100blm03ag-1014001.pdf?src-supplier=Digikey; ComponentLink4Description: https://datasheet.ciiva.com/1014/l0110s0100blm03ag-1014001.pdf?src-supplier=Digikey; ComponentLink5URL: https://datasheet.ciiva.com/1014/l0110s0100blm03ag-1014003.pdf?src-supplier=Digikey; ComponentLink5Description: https://datasheet.ciiva.com/1014/l0110s0100blm03ag-1014003.pdf?src-supplier=Digikey; ComponentLink6URL: https://datasheet.ciiva.com/3082/l0110s0100blm03ag-3082665.pdf?src-supplier=Avnet; ComponentLink6Description: https://datasheet.ciiva.com/3082/l0110s0100blm03ag-3082665.pdf?src-supplier=Avnet
footprint L_0201
pins: 1, 2

## FB_70R_100M_0603
designator FB?, comment 70 Ohms @ 100 MHz
Ferrite Chip, 1 Function(s), 4A, 2 Pin(s); Manufacturer: Murata; Manufacturer Part Number: BLM18SG700TN1D; DC Resistance-Max: 20mR; Clock Frequency: 100MHz; Channels: 1; Output Impedance: 70R; Supplier: Digikey; Supplier Part Number: 490-5224-1-ND; RoHS: Yes; Category: Ferrite Beads and Chips; Stock: 330015; Pricing: 1=0.13, 10=0.109, 25=0.0848, 50=0.0702, 100=0.0605, 250=0.0484, 500=0.04356, 1000=0.03631, 5000=0.03389 (USD); Mounting Technology: Surface Mount; Material: Ferrite; Case Code: 0603; Terminal Finish: Tin; Min Operating Temperature: -55°C; Max Operating Temperature: 125°C; JESD-609 Code: e3; Construction: Chip Bead; Filter Type: FERRITE CHIP; Min Frequency: 100MHz; Packaging: Tape and Reel; Current Rating: 4A; Length: 1.6mm; Width: 0.8mm; Height: 0.5mm; Reach SVHC Compliant: Yes; RoHS Compliant: Yes; ComponentLink1URL: https://datasheet.ciiva.com:443/pdfs/VipMasterIC/IC/MURE/MURE-S-A0008515766/MURE-S-A0008515869-1.pdf?src-supplier=IHS+Markit; ComponentLink1Description: https://datasheet.ciiva.com:443/pdfs/VipMasterIC/IC/MURE/MURE-S-A0008515766/MURE-S-A0008515869-1.pdf?src-supplier=IHS+Markit; ComponentLink2URL: https://datasheet.ciiva.com/41449/001171727-da-01-en-chip-drossel0603-70r-4000ma-1-6x0-8mm-41449356.pdf?src-supplier=Conrad; ComponentLink2Description: https://datasheet.ciiva.com/41449/001171727-da-01-en-chip-drossel0603-70r-4000ma-1-6x0-8mm-41449356.pdf?src-supplier=Conrad; ComponentLink3URL: https://datasheet.ciiva.com/41449/001172316-da-01-en-drossel-0603-70r-1-6x0-8mm-10000st-41449678.pdf?src-supplier=Conrad; ComponentLink3Description: https://datasheet.ciiva.com/41449/001172316-da-01-en-drossel-0603-70r-1-6x0-8mm-10000st-41449678.pdf?src-supplier=Conrad; ComponentLink4URL: https://datasheet.ciiva.com/8021/5151-8021530.pdf?src-supplier=Element14; ComponentLink4Description: https://datasheet.ciiva.com/8021/5151-8021530.pdf?src-supplier=Element14; ComponentLink5URL: https://datasheet.ciiva.com/14122/blm-series-eng-tds-14122901.pdf?src-supplier=Distrelec; ComponentLink5Description: https://datasheet.ciiva.com/14122/blm-series-eng-tds-14122901.pdf?src-supplier=Distrelec; ComponentLink6URL: https://datasheet.ciiva.com/8021/5151-8021529.pdf?src-supplier=Element14; ComponentLink6Description: https://datasheet.ciiva.com/8021/5151-8021529.pdf?src-supplier=Element14; ComponentLink7URL: https://datasheet.ciiva.com/6212/l0110s0100blm18s-6212357.pdf?src-supplier=Digikey; ComponentLink7Description: https://datasheet.ciiva.com/6212/l0110s0100blm18s-6212357.pdf?src-supplier=Digikey
footprint FB_0603
pins: 1, 2

## HOLE_#4
designator MH?, comment #4 Hole  (no BOM)
footprint HOLE_#4
pins: 1

## L_1N2_0201
designator L?
General Purpose Inductor, 0.0029uH, 3.448%, 1 Element, SMD, 0201; Manufacturer: Murata; Manufacturer Part Number: LQP03HQ2N9B02D; Supplier: Digikey; Supplier Part Number: 490-13913-1-ND; RoHS: Yes; Category: Fixed Inductors; Stock: 26330; Pricing: 1=0.17, 10=0.137, 25=0.126, 50=0.1112, 100=0.0973, 250=0.09272, 500=0.08714, 1000=0.06674, 2500=0.06304 (USD); Inductor Type: GENERAL PURPOSE INDUCTOR; Reach SVHC Compliant: Yes; RoHS Compliant: Yes; ComponentLink1URL: https://datasheet.ciiva.com:443/pdfs/VipMasterIC/IC/MURE/MURE-S-A0006160284/MURE-S-A0006160284-1.pdf?src-supplier=IHS+Markit; ComponentLink1Description: https://datasheet.ciiva.com:443/pdfs/VipMasterIC/IC/MURE/MURE-S-A0006160284/MURE-S-A0006160284-1.pdf?src-supplier=IHS+Markit; ComponentLink2URL: http://search.murata.co.jp/Ceramy/image/img/P02/JELF243C-0021.pdf?src-supplier=Digikey; ComponentLink2Description: http://search.murata.co.jp/Ceramy/image/img/P02/JELF243C-0021.pdf?src-supplier=Digikey
footprint L_0201
pins: 1, 2

## L_1N2_0402
designator L?, comment 1.2uH
General Purpose Inductor, 0.0012uH, 8.333%, 1 Element, SMD, 0402; Manufacturer: Murata; Manufacturer Part Number: LQG15HS1N2B02D; DC Resistance (DCR): 70mR; Inductor Application: RF INDUCTOR; Channels: 1; Quality Factor-Min (at L-nom): 8; Max Current Rating: 1A; Self Resonant Frequency: 6GHz; Shape/Size Description: RECTANGULAR PACKAGE; Shielding: Unshielded; Test Frequency: 100MHz; Supplier: Digikey; Supplier Part Number: 490-LQG15HS1N2B02DCT-ND; RoHS: Yes; Category: Fixed Inductors; Stock: 9740; Pricing: 1=0.1, 10=0.065, 25=0.0596, 50=0.0526, 100=0.046, 250=0.04376, 500=0.04114, 1000=0.03152, 2500=0.02977 (USD); Pins: 2; Terminal Finish: Tin; Min Operating Temperature: -55°C; Max Operating Temperature: 125°C; Tolerance: 8.333%; JESD-609 Code: e3; Inductance-Nom (L): 0.0012uH; Inductor Type: GENERAL PURPOSE INDUCTOR; Surface Mount: Yes; Terminal Placement: Dual Ended; Termination: Wraparound; Reach SVHC Compliant: Yes; RoHS Compliant: Yes; ComponentLink1URL: https://psearch.en.murata.com:443/inductor/product/LQG15HS1N2B02_.pdf?src-supplier=IHS+Markit; ComponentLink1Description: https://psearch.en.murata.com:443/inductor/product/LQG15HS1N2B02_.pdf?src-supplier=IHS+Markit
footprint L_0402
pins: 1, 2

## L_1U2_2828
designator L?
General Purpose Inductor, 1.2uH, 20%, 1 Element, Ferrite-Core, SMD, 1111; Manufacturer: Wurth Electronics; Manufacturer Part Number: 744025001; Channels: 1; Case/Size Code: 1111; DC Resistance (DCR): 42mR; Inductor Application: RF INDUCTOR; Max Current Rating: 2.6A; Self Resonant Frequency: 180MHz; Shape/Size Description: RECTANGULAR PACKAGE; Shielding: Unshielded; Test Frequency: 100kHz; Package Height: 2.8mm; Supplier: Digikey; Supplier Part Number: 732-2612-1-ND; RoHS: Yes; Category: Fixed Inductors; Stock: 1365; Pricing: 1=1.64, 10=1.578, 50=1.45, 100=1.205, 250=1.088 (USD); Pins: 2; Terminal Finish: Copper; Core Material: Ferrite; Min Operating Temperature: -40°C; Max Operating Temperature: 125°C; Tolerance: 20%; JESD-609 Code: e2; Package Style: SMTMeter; Surface Mount: Yes; Construction: Chip; Inductance-Nom (L): 1.2uH; Inductor Type: GENERAL PURPOSE INDUCTOR; Packaging: Tape and Reel; Terminal Placement: Dual Ended; Termination: Wraparound; Package Length: 2.8mm; Package Width: 2.8mm; Reach SVHC Compliant: Yes; RoHS Compliant: Yes; ComponentLink1URL: https://datasheet.ciiva.com:443/pdfs/VipMasterIC/IC/MIDC/MIDC-S-A0002801410/MIDC-S-A0002801377-1.pdf?src-supplier=IHS+Markit; ComponentLink1Description: https://datasheet.ciiva.com:443/pdfs/VipMasterIC/IC/MIDC/MIDC-S-A0002801410/MIDC-S-A0002801377-1.pdf?src-supplier=IHS+Markit; ComponentLink2URL: https://datasheet.ciiva.com/1051/744025001-1051482.pdf?src-supplier=Digikey; ComponentLink2Description: https://datasheet.ciiva.com/1051/744025001-1051482.pdf?src-supplier=Digikey; ComponentLink3URL: https://datasheet.ciiva.com/4954/744025001-84490-4954569.pdf?src-supplier=Mouser; ComponentLink3Description: https://datasheet.ciiva.com/4954/744025001-84490-4954569.pdf?src-supplier=Mouser; ComponentLink4URL: https://datasheet.ciiva.com/11803/0900766b80f886b3-11803598.pdf?src-supplier=Rs; ComponentLink4Description: https://datasheet.ciiva.com/11803/0900766b80f886b3-11803598.pdf?src-supplier=Rs; ComponentLink5URL: https://datasheet.ciiva.com/7650/1243423-7650567.pdf?src-supplier=Element14; ComponentLink5Description: https://datasheet.ciiva.com/7650/1243423-7650567.pdf?src-supplier=Element14; ComponentLink6URL: https://datasheet.ciiva.com/1051/744025001-1051483.pdf?src-supplier=Digikey; ComponentLink6Description: https://datasheet.ciiva.com/1051/744025001-1051483.pdf?src-supplier=Digikey; ComponentLink7URL: https://datasheet.ciiva.com/1051/744025001-1051484.pdf?src-supplier=Digikey; ComponentLink7Description: https://datasheet.ciiva.com/1051/744025001-1051484.pdf?src-supplier=Digikey; ComponentLink8URL: https://datasheet.ciiva.com/48690/001087100-da-01-ml-we-tpc-smd-speicherdrossel-7440250-de-en-48690918.pdf?src-supplier=Conrad; ComponentLink8Description: https://datasheet.ciiva.com/48690/001087100-da-01-ml-we-tpc-smd-speicherdrossel-7440250-de-en-48690918.pdf?src-supplier=Conrad
footprint L_2828x30
pins: 1, 2

## L_2N9_0201
designator L?, comment 2.9 nH
General Purpose Inductor, 0.0029uH, 3.448%, 1 Element, SMD, 0201; Manufacturer: Murata; Manufacturer Part Number: LQP03HQ2N9B02D; Supplier: Digikey; Supplier Part Number: 490-13913-1-ND; RoHS: Yes; Category: Fixed Inductors; Stock: 26330; Pricing: 1=0.17, 10=0.137, 25=0.126, 50=0.1112, 100=0.0973, 250=0.09272, 500=0.08714, 1000=0.06674, 2500=0.06304 (USD); Inductor Type: GENERAL PURPOSE INDUCTOR; Reach SVHC Compliant: Yes; RoHS Compliant: Yes; ComponentLink1URL: https://datasheet.ciiva.com:443/pdfs/VipMasterIC/IC/MURE/MURE-S-A0006160284/MURE-S-A0006160284-1.pdf?src-supplier=IHS+Markit; ComponentLink1Description: https://datasheet.ciiva.com:443/pdfs/VipMasterIC/IC/MURE/MURE-S-A0006160284/MURE-S-A0006160284-1.pdf?src-supplier=IHS+Markit; ComponentLink2URL: http://search.murata.co.jp/Ceramy/image/img/P02/JELF243C-0021.pdf?src-supplier=Digikey; ComponentLink2Description: http://search.murata.co.jp/Ceramy/image/img/P02/JELF243C-0021.pdf?src-supplier=Digikey
footprint L_0201
pins: 1, 2

## L_2N9_0402
designator L?, comment 2.9uH
General Purpose Inductor, 0.0029uH, 10.345%, 1 Element, SMD, 0402; Manufacturer: Murata; Manufacturer Part Number: LQG15WZ2N9S02D; Supplier: Digikey; Supplier Part Number: 490-LQG15WZ2N9S02DCT-ND; RoHS: Yes; Category: Fixed Inductors; Stock: 19729; Pricing: 1=0.12, 10=0.099, 25=0.0912, 50=0.0804, 100=0.0703, 250=0.06696, 500=0.06294, 1000=0.0482, 2500=0.04553 (USD)
footprint L_0402
pins: 1, 2